# Altium integrated library DSPIC33FJ64GP802-E_SP.IntLib: 1 symbol
Pins are listed as number, name and electrical type; pins without a type are passive.

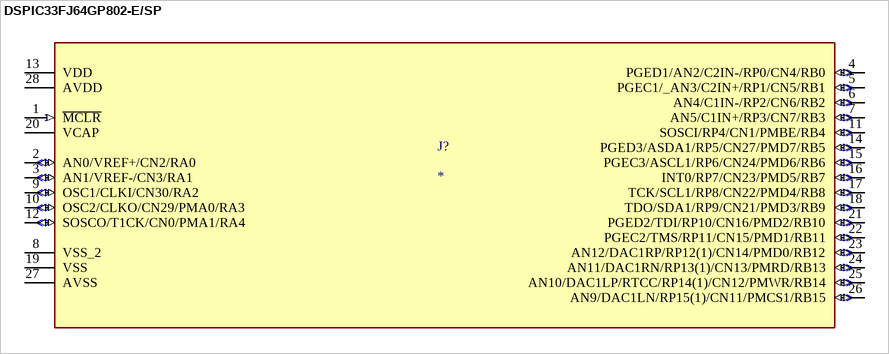
[diagram p0: symbol DSPIC33FJ64GP802-E/SP]

## DSPIC33FJ64GP802-E/SP
designator J?
16-Bit Digital Signal Controllers; MP: DSPIC33FJ64GP802-E/SP; Package: None; Price: None; Value: *; Availability: Unavailable
footprint DIP254P762X508-28
pins: 1 ~{MCLR} (in), 2 AN0/VREF+/CN2/RA0 (io), 3 AN1/VREF-/CN3/RA1 (io), 4 PGED1/AN2/C2IN-/RP0/CN4/RB0 (io), 5 PGEC1/_AN3/C2IN+/RP1/CN5/RB1 (io), 6 AN4/C1IN-/RP2/CN6/RB2 (io), 7 AN5/C1IN+/RP3/CN7/RB3 (io), 8 VSS_2 (power), 9 OSC1/CLKI/CN30/RA2 (io), 10 OSC2/CLKO/CN29/PMA0/RA3 (io), 11 SOSCI/RP4/CN1/PMBE/RB4 (io), 12 SOSCO/T1CK/CN0/PMA1/RA4 (io), 13 VDD (power), 14 PGED3/ASDA1/RP5/CN27/PMD7/RB5 (io), 15 PGEC3/ASCL1/RP6/CN24/PMD6/RB6 (io), 16 INT0/RP7/CN23/PMD5/RB7 (io), 17 TCK/SCL1/RP8/CN22/PMD4/RB8 (io), 18 TDO/SDA1/RP9/CN21/PMD3/RB9 (io), 19 VSS (power), 20 VCAP (power), 21 PGED2/TDI/RP10/CN16/PMD2/RB10 (io), 22 PGEC2/TMS/RP11/CN15/PMD1/RB11 (io), 23 AN12/DAC1RP/RP12(1)/CN14/PMD0/RB12 (io), 24 AN11/DAC1RN/RP13(1)/CN13/PMRD/RB13 (io), 25 AN10/DAC1LP/RTCC/RP14(1)/CN12/PMWR/RB14 (io), 26 AN9/DAC1LN/RP15(1)/CN11/PMCS1/RB15 (io), 27 AVSS (power), 28 AVDD (power)